# EAGLE library part AKL18X-10 (library con-riacon)
Riacon AKL18X Steckverbinder 10-Pol Grid = 3,5mm
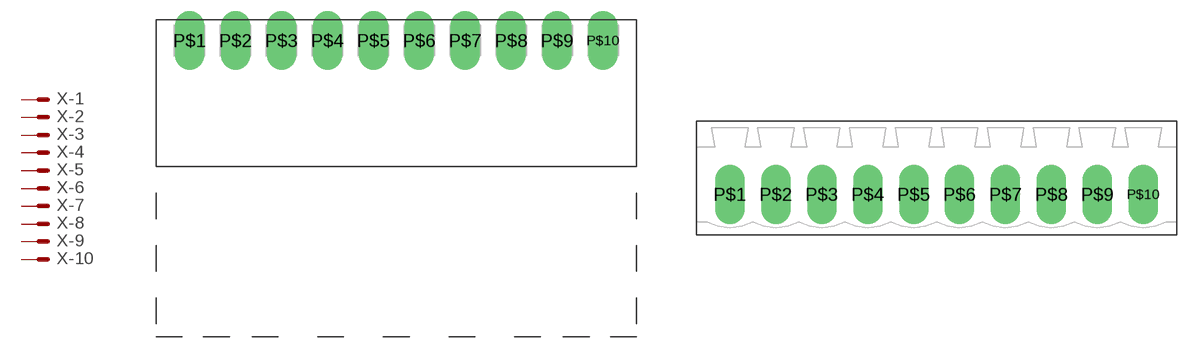
[diagram p2: symbol with the pads of AKL182-10; footprints AKL182-10, AKL183-10]

Designator prefix X; gates -1=M -2=M -3=M -4=M -5=M -6=M -7=M -8=M -9=M -10=M

## AKL18X-10W  [AKL182-10]
P$1  -1:S  pas
P$2  -2:S  pas
P$3  -3:S  pas
P$4  -4:S  pas
P$5  -5:S  pas
P$6  -6:S  pas
P$7  -7:S  pas
P$8  -8:S  pas
P$9  -9:S  pas
P$10  -10:S  pas

## AKL18X-10G  [AKL183-10]
Pads as for AKL182-10

## Footprint AKL182-10 (pad centres in mm)
drill 1.5 pad 2.184 long: P$1 -15.75,0; P$2 -12.25,0; P$3 -8.75,0; P$4 -5.25,0; P$5 -1.75,0; P$6 1.75,0; P$7 5.25,0; P$8 8.75,0; P$9 12.25,0; P$10 15.75,0

## Footprint AKL183-10 (pad centres in mm)
drill 1.5 pad 2.184 long: P$1 -15.75,0; P$2 -12.25,0; P$3 -8.75,0; P$4 -5.25,0; P$5 -1.75,0; P$6 1.75,0; P$7 5.25,0; P$8 8.75,0; P$9 12.25,0; P$10 15.75,0